# Altium footprint library U_I_Meter_TOP.PcbLib: 1 footprints
Each footprint in its own frame and in the unit in brackets; x right, y up, seen from the top. Pads: shape width x height; smd on the part's side, far side on the other; paste and mask are expansions set on the pad; w line width, h text height; cw(c..) or ccw(c..) is an arc to the next point about the centre after c.
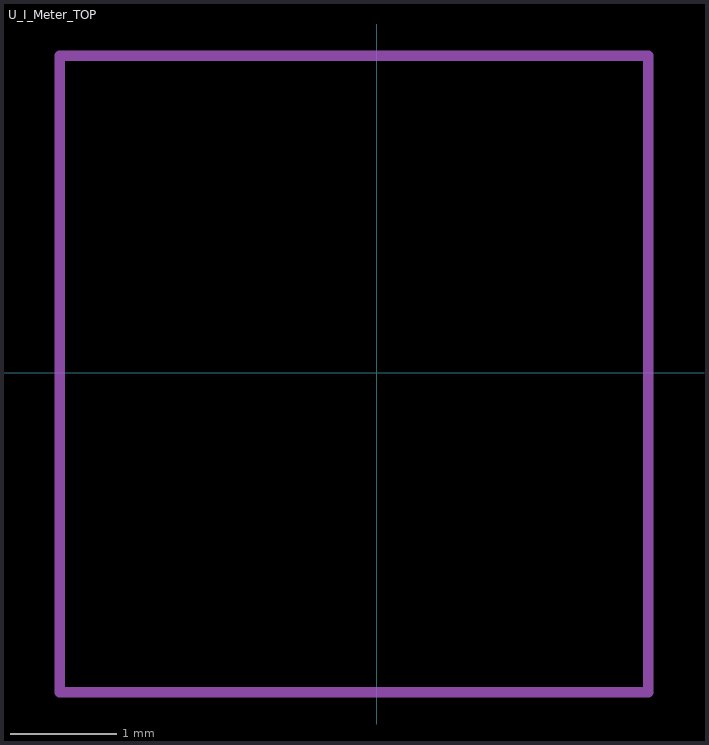
[diagram p0: the footprint, top view; thin cyan lines are the x and y axes]

## U_I_Meter_TOP [mm]
height 0.95
Top Assembly:
  lines w0.1: -2.975,-3 -2.975,2.975 2.55,2.975 2.55,-3 -2.975,-3
  text "'.Designator'" at -0.925,-0.325 h0.7
3D body "U_I_Meter_TOP.step": height 28.65, standoff -40.09, extent 0,0 67,84